# Altium schematic symbol library BasicSAMD21.SchLib: 26 symbols
Pins are listed as number, name and electrical type; pins without a type are passive.

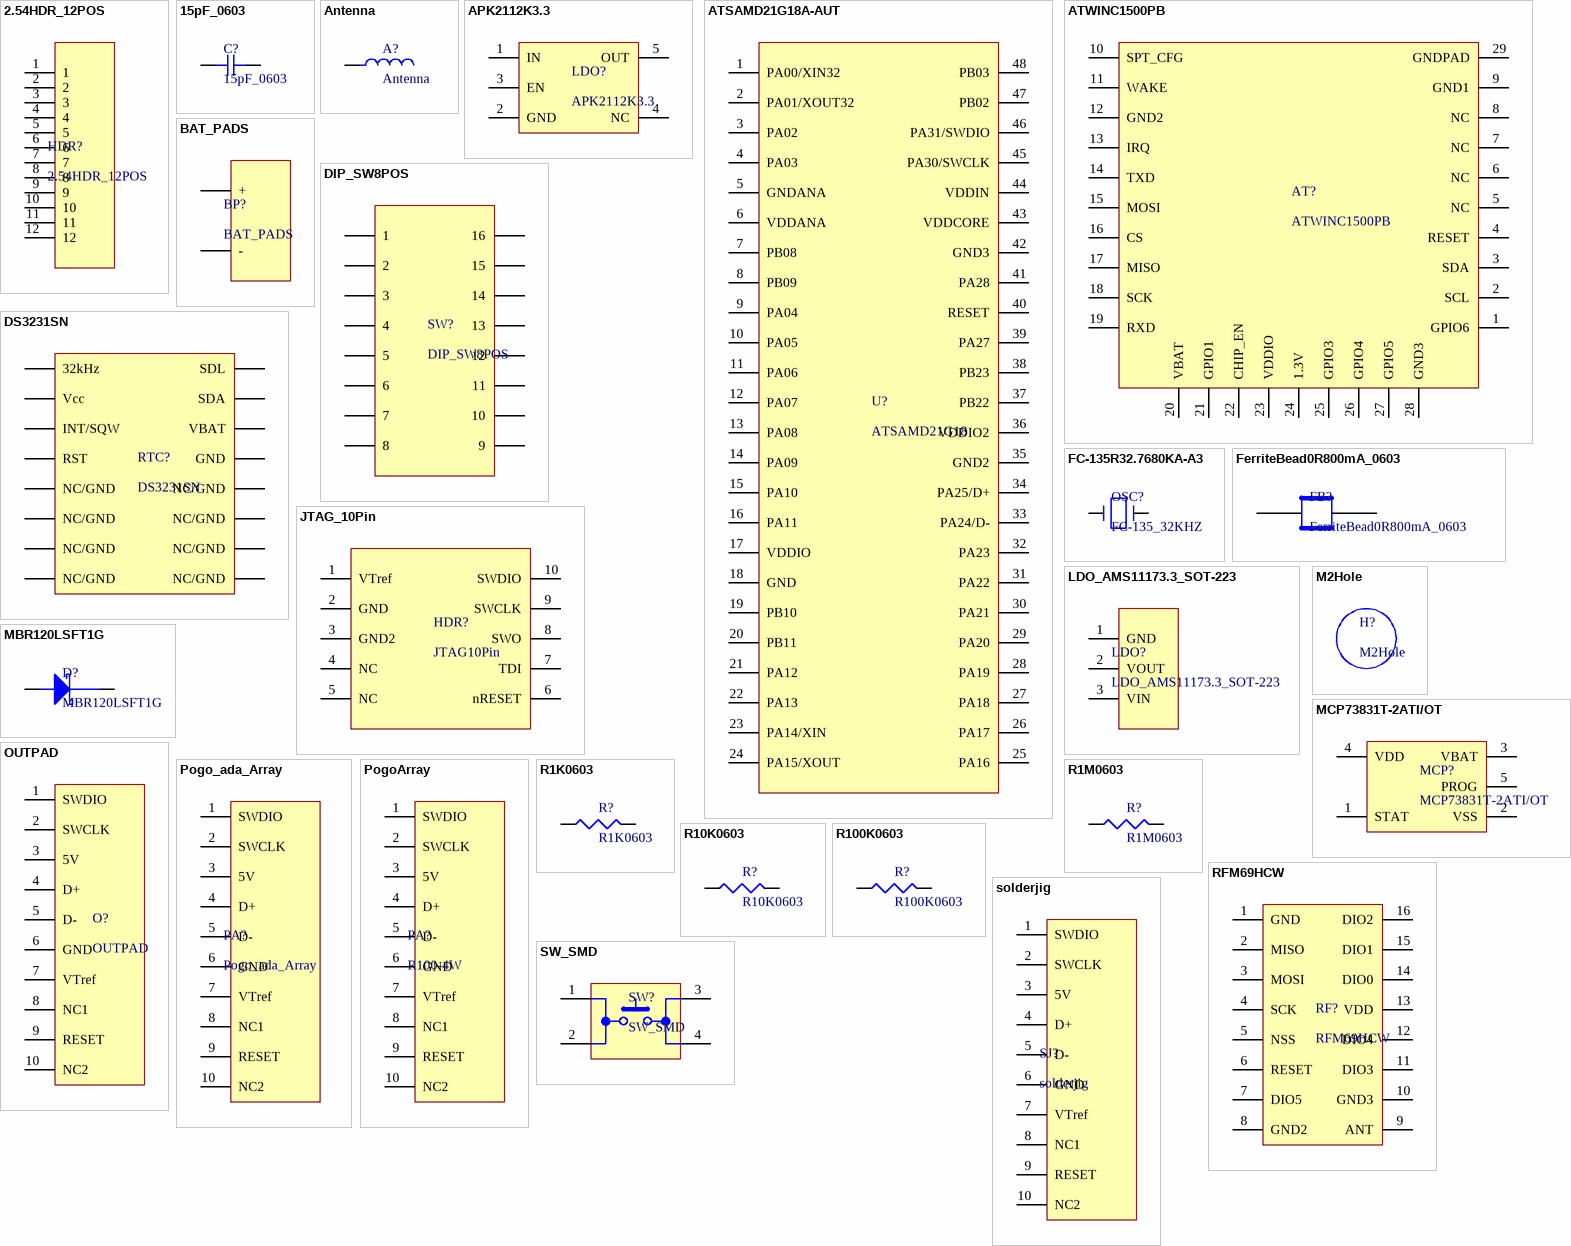
[diagram p0: symbols 2.54HDR_12POS to SW_SMD]

## 2.54HDR_12POS
designator HDR?
footprint DIP12
pins: 1, 2, 3, 4, 5, 6, 7, 8, 9, 10, 11, 12

## 15pF_0603
designator C?
footprint C0603
pins: 1, 2

## Antenna
designator A?
footprint Antenna
pins: 1

## APK2112K3.3
designator LDO?
footprint SOT25
pins: 1 IN, 2 GND, 3 EN, 4 NC, 5 OUT

## ATSAMD21G18A-AUT
designator U?, comment ATSAMD21G18
IC MCU 32BIT 256KB FLASH 48TQFP; Manufacturer: Microchip; Manufacturer Part Number: ATSAMD21G18A-AUT; Supplier 1: Digi-Key; Stock 1: 16813; Pricing 1: 1=3.22, 25=2.9252, 100=2.6574 (USD)
footprint TQFP48
pins: 1 PA00/XIN32, 2 PA01/XOUT32, 3 PA02, 4 PA03, 5 GNDANA, 6 VDDANA, 7 PB08, 8 PB09, 9 PA04, 10 PA05, 11 PA06, 12 PA07, 13 PA08, 14 PA09, 15 PA10, 16 PA11, 17 VDDIO, 18 GND, 19 PB10, 20 PB11, 21 PA12, 22 PA13, 23 PA14/XIN, 24 PA15/XOUT, 25 PA16, 26 PA17, 27 PA18, 28 PA19, 29 PA20, 30 PA21, 31 PA22, 32 PA23, 33 PA24/D-, 34 PA25/D+, 35 GND2, 36 VDDIO2, 37 PB22, 38 PB23, 39 PA27, 40 RESET, 41 PA28, 42 GND3, 43 VDDCORE, 44 VDDIN, 45 PA30/SWCLK, 46 PA31/SWDIO, 47 PB02, 48 PB03

## ATWINC1500PB
designator AT?
footprint XCVR_ATWINC1500-MR210PB
pins: 1 GPIO6, 2 SCL, 3 SDA, 4 RESET, 5 NC, 6 NC, 7 NC, 8 NC, 9 GND1, 10 SPT_CFG, 11 WAKE, 12 GND2, 13 IRQ, 14 TXD, 15 MOSI, 16 CS, 17 MISO, 18 SCK, 19 RXD, 20 VBAT, 21 GPIO1, 22 CHIP_EN, 23 VDDIO, 24 1.3V, 25 GPIO3, 26 GPIO4, 27 GPIO5, 28 GND3, 29 GNDPAD

## BAT_PADS
designator BP?
footprint BAT_PADS
pins: 1 +, 2 -

## DIP_SW8POS
designator SW?
footprint DIP_SW8POS
pins: 1, 2, 3, 4, 5, 6, 7, 8, 9, 10, 11, 12, 13, 14, 15, 16

## DS3231SN
designator RTC?
footprint SO16W
pins: 1 32kHz, 2 Vcc, 3 INT/SQW, 4 RST, 5 NC/GND, 6 NC/GND, 7 NC/GND, 8 NC/GND, 9 NC/GND, 10 NC/GND, 11 NC/GND, 12 NC/GND, 13 GND, 14 VBAT, 15 SDA, 16 SDL

## FC-135R32.7680KA-A3
designator OSC?, comment FC-135_32KHZ
32.768kHz ±20ppm Crystal 12.5pF 50 kOhm -40°C ~ 85°C  Surface Mount 2-SMD, No Lead (DFN, LCC); Manufacturer: Epson; Manufacturer Part Number: FC-135R32.7680KA-A3; ESR (Equivalent Series Resistance): 50 kOhm; Operating Mode: Fundamental; Supplier 1: Digi-Key; Stock 1: 2024; Pricing 1: 1=0.59, 10=0.495, 50=0.4456, 100=0.396 (USD); Category: Crystals and Oscillators; Family: Crystals; Series: FC-135R; Packaging: Cut Tape (CT); Type: kHz Crystal (Tuning Fork); Frequency: 32.768kHz; Frequency Stability: -; Frequency Tolerance: ±20ppm; Load Capacitance: 12.5pF; Operating Temperature: -40°C ~ 85°C; Ratings: -; Mounting Type: Surface Mount; Package / Case: 2-SMD, No Lead (DFN, LCC); Size / Dimension: 0.126" L x 0.061" W (3.20mm x 1.50mm); Height: 0.035" (0.90mm)
footprint FC-135
pins: 1, 2

## FerriteBead0R800mA_0603
designator FB?
footprint C0603
pins: 1, 2

## JTAG_10Pin
designator HDR?, comment JTAG10Pin
footprint JTAG10
pins: 1 VTref, 2 GND, 3 GND2, 4 NC, 5 NC, 6 nRESET, 7 TDI, 8 SWO, 9 SWCLK, 10 SWDIO

## LDO_AMS11173.3_SOT-223
designator LDO?
footprint SOT223
pins: 1 GND, 2 VOUT, 3 VIN

## M2Hole
designator H?
footprint M2Hole

## MBR120LSFT1G
designator D?
footprint SOD-123FL
pins: 1 Anode, 2 Cathode

## MCP73831T-2ATI/OT
designator MCP?
footprint SOT23-5
pins: 1 STAT, 2 VSS, 3 VBAT, 4 VDD, 5 PROG

## OUTPAD
designator O?
footprint OUTPAD
pins: 1 SWDIO, 2 SWCLK, 3 5V, 4 D+, 5 D-, 6 GND, 7 VTref, 8 NC1, 9 RESET, 10 NC2

## Pogo_ada_Array
designator PA?
footprint POGO_ADA
pins: 1 SWDIO, 2 SWCLK, 3 5V, 4 D+, 5 D-, 6 GND, 7 VTref, 8 NC1, 9 RESET, 10 NC2

## PogoArray
designator PA?, comment R100-4W
footprint PogoArray
pins: 1 SWDIO, 2 SWCLK, 3 5V, 4 D+, 5 D-, 6 GND, 7 VTref, 8 NC1, 9 RESET, 10 NC2

## R1K0603
designator R?
footprint C/R0603
pins: 1, 2

## R1M0603
designator R?
footprint C/R0603
pins: 1, 2

## R10K0603
designator R?
footprint C/R0603
pins: 1, 2

## R100K0603
designator R?
footprint C/R0603
pins: 1, 2

## RFM69HCW
designator RF?
footprint RFM69
pins: 1 GND, 2 MISO, 3 MOSI, 4 SCK, 5 NSS, 6 RESET, 7 DIO5, 8 GND2, 9 ANT, 10 GND3, 11 DIO3, 12 DIO4, 13 VDD, 14 DIO0, 15 DIO1, 16 DIO2

## solderjig
designator SJ?
footprint SolderJig
pins: 1 SWDIO, 2 SWCLK, 3 5V, 4 D+, 5 D-, 6 GND, 7 VTref, 8 NC1, 9 RESET, 10 NC2

## SW_SMD
designator SW?
footprint SW_SMD
pins: 1, 2, 3, 4